# EAGLE library part 87264-20 (library con-molex-milli-grid)
RECEPTACAL
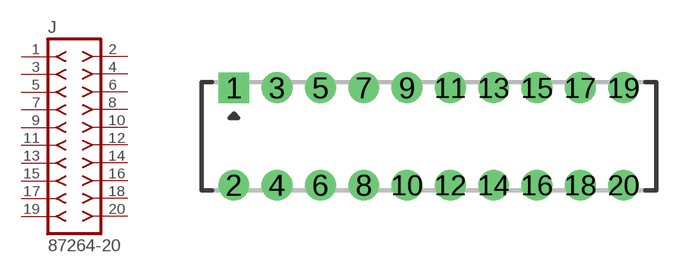
[diagram p211: symbol with the pads of 87264-20; footprint 87264-20]

Designator prefix J

## 87264-20  [87264-20]
1  1  pas
2  2  pas
3  3  pas
4  4  pas
5  5  pas
6  6  pas
7  7  pas
8  8  pas
9  9  pas
10  10  pas
11  11  pas
12  12  pas
13  13  pas
14  14  pas
15  15  pas
16  16  pas
17  17  pas
18  18  pas
19  19  pas
20  20  pas

## Footprint 87264-20 (pad centres in mm)
RECEPTACAL Dual Row, Side Entry
drill 0.914 square: 1 -9,2.25
drill 0.914: 2 -9,-2.25; 3 -7,2.25; 4 -7,-2.25; 5 -5,2.25; 6 -5,-2.25; 7 -3,2.25; 8 -3,-2.25; 9 -1,2.25; 10 -1,-2.25; 11 1,2.25; 12 1,-2.25; 13 3,2.25; 14 3,-2.25; 15 5,2.25; 16 5,-2.25; 17 7,2.25; 18 7,-2.25; 19 9,2.25; 20 9,-2.25